# EAGLE library part RCLAMP0502A (library polarinstruments)
RClamp0502A semtech USB ESD Protection didoe for data lines
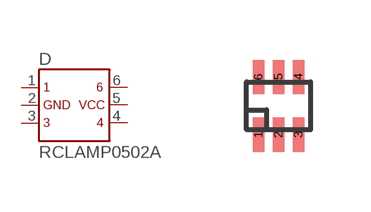
[diagram p3: symbol with the pads of SC-89; footprint SC-89]

Designator prefix D

## RCLAMP0502A  [SC-89]
1  1
2  2
3  3
4  4
5  5
6  6

## Footprint SC-89 (pad centres in mm)
smd 0.3 x 0.85: 1 -0.5,-0.725; 2 0,-0.725; 3 0.5,-0.725; 4 0.5,0.725; 5 0,0.725; 6 -0.5,0.725